# Altium footprint library HGH.PcbLib: 336 footprints (part 20 of 21)
Each footprint in its own frame and in the unit in brackets; x right, y up, seen from the top. Pads: shape width x height; smd on the part's side, far side on the other; paste and mask are expansions set on the pad; w line width, h text height; cw(c..) or ccw(c..) is an arc to the next point about the centre after c.
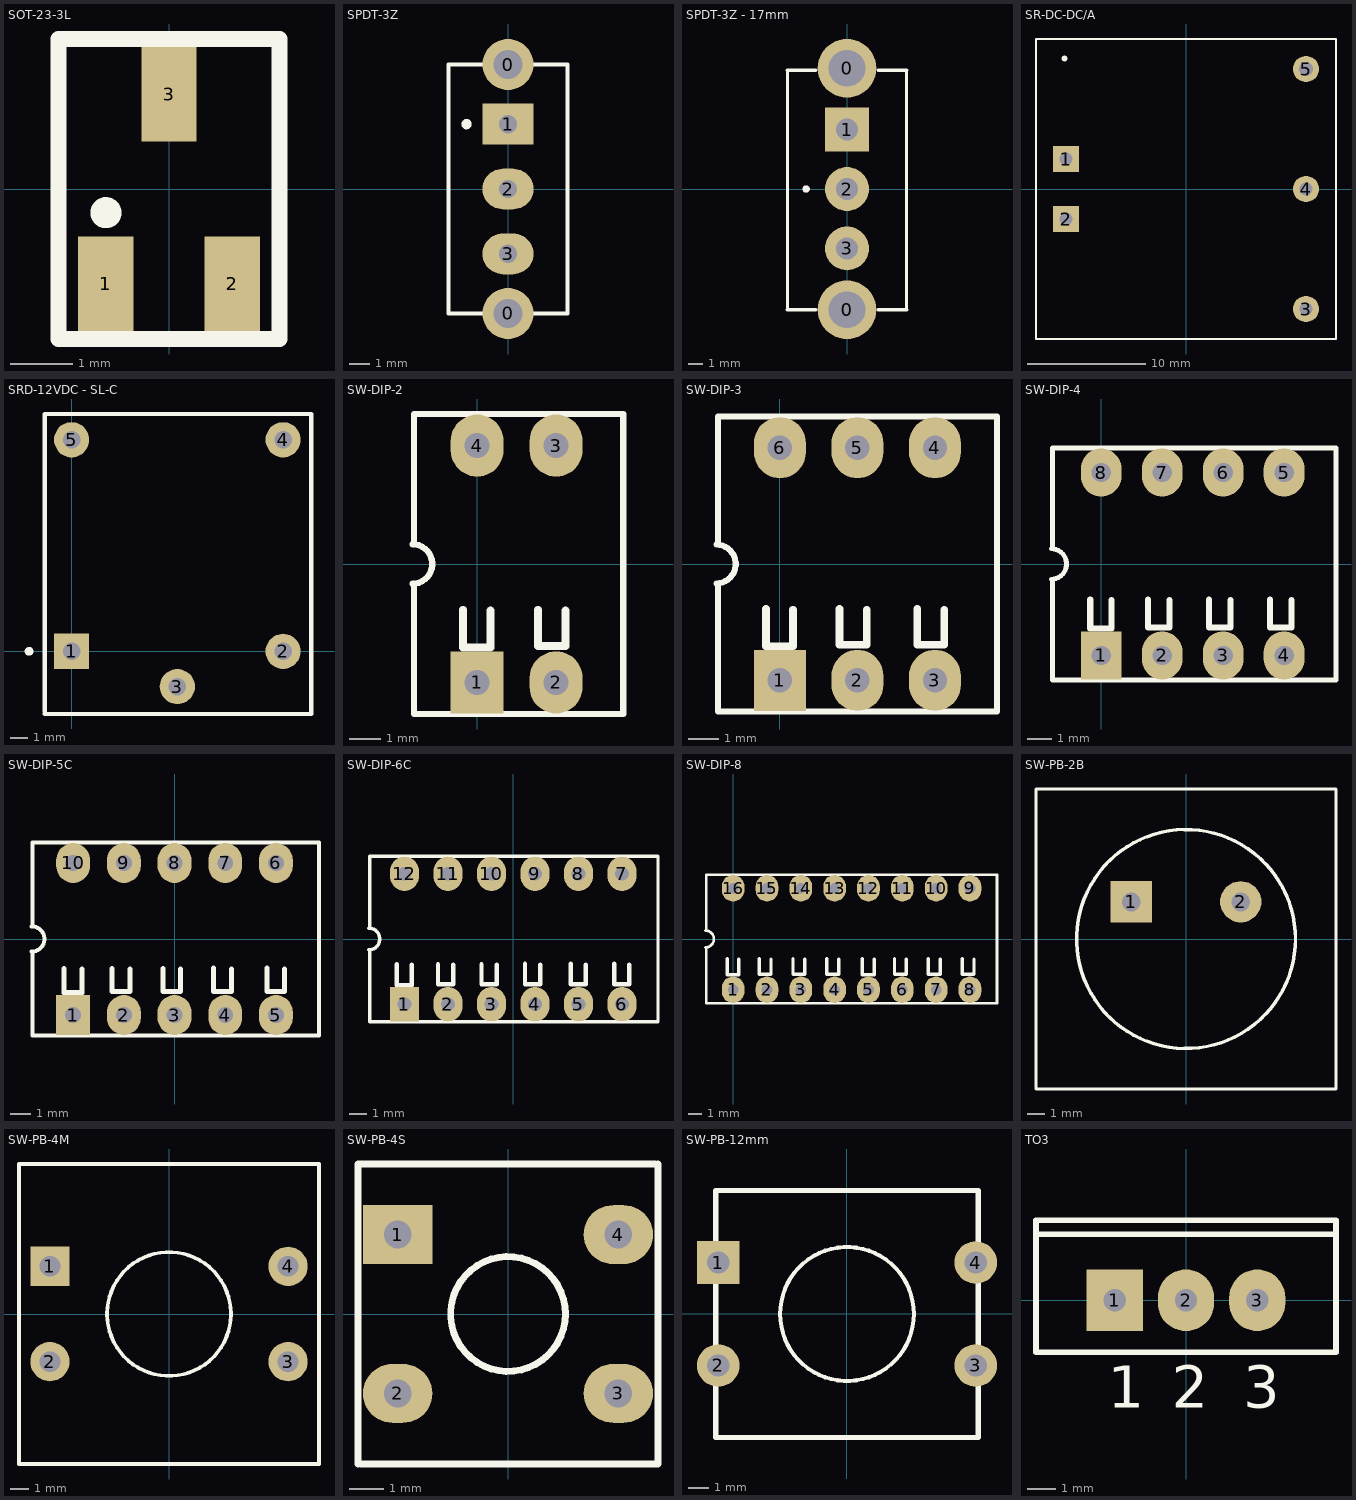
[diagram p19: the footprints below, top view; thin cyan lines are the x and y axes]

## SOT-23-3L [mil]
pads (3):
  rect 35x60 smd: 1(-40,-60) 2(40,-60) 3(0,60)
Top Overlay:
  circle w9.84: c-39.92,-15 r4.92
  lines w10: -70,-95 70,-95 70,95 -70,95 -70,-95

## SPDT-3Z [mm]
pads (5):
  round 2.5 hole 1.4: 0(0,-6.096) 0(0,6.096)
  rect 2.5x2 hole 0.9: 1(0,3.175)
  oval 2.5x2 hole 0.9: 2(0,0) 3(0,-3.175)
Top Overlay:
  circle w0.25: c-2.03,3.175 r0.125
  lines w0.2: -2.921,-6.096 2.921,-6.096 2.921,6.096 -2.921,6.096 -2.921,-6.096

## SPDT-3Z - 17mm [mm]
pads (5):
  round 4 hole 2.5: 0(0,-8.255) 0(0,8.255)
  rect 3x3 hole 1.5: 1(0,4.064)
  round 3 hole 1.5: 2(0,0) 3(0,-4.064)
Top Overlay:
  circle w0.25: c-2.792,0 r0.125
  lines w0.2: -4.064,-8.255 -4.064,8.128 ; 4.064,-8.255 4.064,8.128
  lines w0.254: -4.064,-8.255 -2.159,-8.255 ; -4.064,8.128 -2.159,8.128 ; 2.159,-8.255 4.064,-8.255 ; 2.159,8.128 4.064,8.128

## SR-DC-DC/A [mm]
pads (5):
  rect 2.2x2.2 hole 1.1: 1(-10.16,2.54) 2(-10.16,-2.54)
  round 2.2 hole 1.1: 3(10.16,-10.16) 4(10.16,0)
  round 2.2 hole 1.2: 5(10.16,10.16)
Top Overlay:
  circle w0.25: c-10.285,11.049 r0.125
  lines w0.2: -12.7,-12.7 -12.7,12.7 12.7,12.7 12.7,-12.7 -12.7,-12.7

## SRD-12VDC - SL-C [mm]
pads (5):
  rect 2x2 hole 1: 1(0,0)
  round 2 hole 1: 2(12,0) 3(6,-2) 4(12,12) 5(0,12)
Top Overlay:
  circle w0.25: c-2.411,0 r0.125
  lines w0.254: -1.524,-3.556 13.589,-3.556 13.589,13.462 -1.524,13.462 -1.524,-3.429

## SW-DIP-2 [mm]
pads (4):
  rect 1.7x2 hole 0.8: 1(0,-3.81)
  oval 1.7x2 hole 0.8: 2(2.54,-3.81) 3(2.54,3.81) 4(0,3.81)
Top Overlay:
  lines w0.2: -2.08,-0.635 ccw(c-2.08,0) -2.08,0.635 ; -2.032,-0.635 -2.032,-4.826 4.699,-4.826 4.699,4.826 -2.032,4.826 -2.032,0.635
  lines w0.254: -0.457,-1.473 -0.457,-2.692 0.432,-2.692 0.432,-1.499 ; 1.956,-1.473 1.956,-2.642 2.845,-2.642 2.845,-1.499

## SW-DIP-3 [mm]
pads (6):
  rect 1.7x2 hole 0.8: 1(0,-3.81)
  oval 1.7x2 hole 0.8: 2(2.54,-3.81) 3(5.08,-3.81) 4(5.08,3.81) 5(2.54,3.81) 6(0,3.81)
Top Overlay:
  lines w0.2: -2.08,-0.635 ccw(c-2.08,0) -2.08,0.635 ; -2.032,-0.635 -2.032,-4.826 7.112,-4.826 7.112,4.826 -2.032,4.826 -2.032,0.635
  lines w0.254: -0.457,-1.473 -0.457,-2.692 0.432,-2.692 0.432,-1.499 ; 1.956,-1.473 1.956,-2.642 2.845,-2.642 2.845,-1.499 ; 4.496,-1.473 4.496,-2.642 5.385,-2.642 5.385,-1.499

## SW-DIP-4 [mm]
pads (8):
  rect 1.7x2 hole 0.8: 1(0,-3.81)
  oval 1.7x2 hole 0.8: 2(2.54,-3.81) 3(5.08,-3.81) 4(7.62,-3.81) 5(7.62,3.81) 6(5.08,3.81) 7(2.54,3.81) 8(0,3.81)
Top Overlay:
  lines w0.2: -2.08,-0.635 ccw(c-2.08,0) -2.08,0.635 ; -2.032,-0.635 -2.032,-4.826 9.779,-4.826 9.779,4.826 -2.032,4.826 -2.032,0.635
  lines w0.254: -0.457,-1.473 -0.457,-2.692 0.432,-2.692 0.432,-1.499 ; 1.956,-1.473 1.956,-2.642 2.845,-2.642 2.845,-1.499 ; 4.496,-1.473 4.496,-2.642 5.385,-2.642 5.385,-1.499 ; 7.036,-1.473 7.036,-2.642 7.925,-2.642 7.925,-1.499

## SW-DIP-5C [mm]
pads (10):
  rect 1.7x2 hole 0.8: 1(-5.08,-3.81)
  oval 1.7x2 hole 0.8: 2(-2.54,-3.81) 3(0,-3.81) 4(2.54,-3.81) 5(5.08,-3.81) 6(5.08,3.81) 7(2.54,3.81) 8(0,3.81) 9(-2.54,3.81) 10(-5.08,3.81)
Top Overlay:
  lines w0.2: -7.16,-0.635 ccw(c-7.16,0) -7.16,0.635 ; -7.112,-0.635 -7.112,-4.826 7.239,-4.826 7.239,4.826 -7.112,4.826 -7.112,0.635
  lines w0.254: -5.537,-1.473 -5.537,-2.692 -4.648,-2.692 -4.648,-1.499 ; -3.124,-1.473 -3.124,-2.642 -2.235,-2.642 -2.235,-1.499 ; -0.584,-1.473 -0.584,-2.642 0.305,-2.642 0.305,-1.499 ; 1.956,-1.448 1.956,-2.642 2.845,-2.642 2.845,-1.499 ; 4.623,-1.448 4.623,-2.642 5.512,-2.642 5.512,-1.499

## SW-DIP-6C [mm]
pads (12):
  rect 1.7x2 hole 0.8: 1(-6.35,-3.81)
  oval 1.7x2 hole 0.8: 2(-3.81,-3.81) 3(-1.27,-3.81) 4(1.27,-3.81) 5(3.81,-3.81) 6(6.35,-3.81) 7(6.35,3.81) 8(3.81,3.81) 9(1.27,3.81) 10(-1.27,3.81) 11(-3.81,3.81) 12(-6.35,3.81)
Top Overlay:
  lines w0.2: -8.43,-0.635 ccw(c-8.43,0) -8.43,0.635 ; -8.382,-0.635 -8.382,-4.826 8.458,-4.826 8.458,4.826 -8.382,4.826 -8.382,0.635
  lines w0.254: -6.807,-1.473 -6.807,-2.692 -5.918,-2.692 -5.918,-1.499 ; -4.394,-1.473 -4.394,-2.642 -3.505,-2.642 -3.505,-1.499 ; -1.854,-1.473 -1.854,-2.642 -0.965,-2.642 -0.965,-1.499 ; 0.686,-1.448 0.686,-2.642 1.575,-2.642 1.575,-1.499 ; 3.353,-1.448 3.353,-2.642 4.242,-2.642 4.242,-1.499 ; 5.893,-1.448 5.893,-2.642 6.782,-2.642 6.782,-1.499

## SW-DIP-8 [mm]
pads (16):
  oval 1.7x2 hole 0.8: 1(0,-3.81) 2(2.54,-3.81) 3(5.08,-3.81) 4(7.62,-3.81) 5(10.16,-3.81) 6(12.7,-3.81) 7(15.24,-3.81) 8(17.78,-3.81) 9(17.78,3.81) 10(15.24,3.81) 11(12.7,3.81) 12(10.16,3.81) 13(7.62,3.81) 14(5.08,3.81) 15(2.54,3.81) 16(0,3.81)
Top Overlay:
  lines w0.2: -2.08,-0.635 ccw(c-2.08,0) -2.08,0.635 ; -2.032,-0.635 -2.032,-4.826 19.812,-4.826 19.812,4.826 -2.032,4.826 -2.032,0.635
  lines w0.254: -0.457,-1.473 -0.457,-2.692 0.432,-2.692 0.432,-1.499 ; 1.956,-1.473 1.956,-2.642 2.845,-2.642 2.845,-1.499 ; 4.496,-1.473 4.496,-2.642 5.385,-2.642 5.385,-1.499 ; 7.036,-1.473 7.036,-2.642 7.925,-2.642 7.925,-1.499 ; 9.703,-1.473 9.703,-2.692 10.592,-2.692 10.592,-1.499 ; 12.116,-1.473 12.116,-2.642 13.005,-2.642 13.005,-1.499 ; 14.656,-1.473 14.656,-2.642 15.545,-2.642 15.545,-1.499 ; 17.196,-1.473 17.196,-2.642 18.085,-2.642 18.085,-1.499

## SW-PB-2B [mm]
pads (2):
  rect 2.4x2.4 hole 1.1: 1(-3.175,2.159)
  round 2.4 hole 1.1: 2(3.175,2.159)
Top Overlay:
  circle w0.2: c0,0 r6.35
  lines w0.2: -8.7,-8.7 -8.7,8.7 8.7,8.7 8.7,-8.7 -8.7,-8.7

## SW-PB-4M [mm]
pads (4):
  rect 2.1x2.1 hole 1.1: 1(-6.35,2.54)
  round 2.1 hole 1.1: 2(-6.35,-2.54) 3(6.35,-2.54) 4(6.35,2.54)
Top Overlay:
  circle w0.2: c0,0 r3.302
  lines w0.2: -8.001,-8.001 -8.001,8.001 8.001,8.001 8.001,-8.001 -8.001,-8.001

## SW-PB-4S [mm]
pads (4):
  rect 2x1.7 hole 0.8: 1(-3.175,2.286)
  oval 2x1.7 hole 0.8: 2(-3.175,-2.286) 3(3.175,-2.286) 4(3.175,2.286)
Top Overlay:
  circle w0.2: c0,0 r1.651
  lines w0.2: -4.318,-4.318 -4.318,4.318 4.242,4.318 ; -4.242,-4.318 4.318,-4.318 4.318,4.318

## SW-PB-12mm [mm]
pads (4):
  rect 2.1x2.1 hole 1.1: 1(-6.35,2.54)
  round 2.1 hole 1.1: 2(-6.35,-2.54) 3(6.35,-2.54) 4(6.35,2.54)
Top Overlay:
  circle w0.2: c0,0 r3.302
  lines w0.254: -6.477,-6.096 6.477,-6.096 6.477,6.096 -6.477,6.096 -6.477,-6.096

## TO3 [mm]
pads (3):
  rect 2x2.2 hole 0.8: 1(-2.54,0)
  oval 2x2.2 hole 0.8: 2(0,0) 3(2.54,0)
Top Overlay:
  lines w0.2: -5.35,2.35 5.35,2.35 ; -5.35,-1.85 -5.35,2.85 5.35,2.85 5.35,-1.85 -5.35,-1.85
  text "3" at 2.04,-3.825 h1.5
  text "1" at -2.79,-3.825 h1.5
  text "2" at -0.5,-3.825 h1.5